# EAGLE library part SD_CARD_1140084168 (library 3D_MIG_Controller)
Conn; IC Socket; Micro SD; Right Angle; PCB Mount; MicroSD Ser.:: 10 _8 + 2_ Position Card Connector Secure Digital - microSD™ Surface Mount, Right Angle Gold
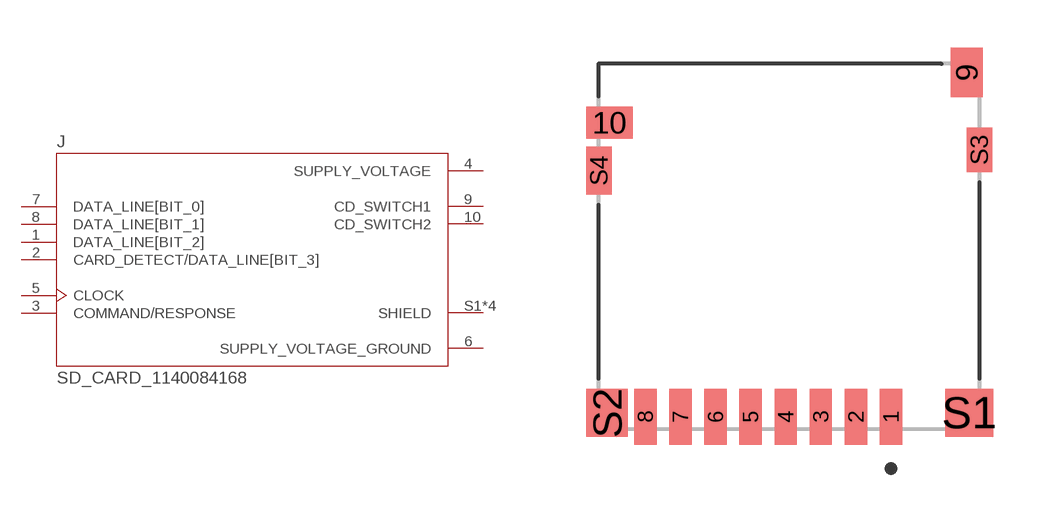
[diagram p36: symbol with the pads of SD_CARD; footprint SD_CARD]

Designator prefix J

## SD_CARD_1140084168 (MF: Amphenol ICC; PARTNO: 114-00841-68; VALUE: SD_CARD; VID: Digikey; VP: 114-00841-68-1-ND; VURL: https://www.digikey.ae/product-detail/en/amphenol-icc-commercial-products/114-00841-68/114-00841-68-1-ND/2187101?utm_source=snapeda&utm_medium=aggregator&utm_campaign=symbol)  [SD_CARD]
1  DATA_LINE[BIT_2]
2  CARD_DETECT/DATA_LINE[BIT_3]
3  COMMAND/RESPONSE
4  SUPPLY_VOLTAGE  pwr
5  CLOCK
6  SUPPLY_VOLTAGE_GROUND  pwr
7  DATA_LINE[BIT_0]
8  DATA_LINE[BIT_1]
9  CD_SWITCH1
10  CD_SWITCH2
S1  SHIELD  pas
S2  SHIELD  pas
S3  SHIELD  pas
S4  SHIELD  pas

## Footprint SD_CARD (pad centres in mm)
smd 0.7 x 1.75: 1 3.2,-5.285; 2 2.1,-5.285; 3 1,-5.285; 4 -0.1,-5.285; 5 -1.2,-5.285; 6 -2.3,-5.285; 7 -3.4,-5.285; 8 -4.5,-5.285
smd 1 x 1.55: 9 5.575,5.515
smd 1.45 x 1: 10 -5.625,3.94
smd 1.5 x 1.5: S1 5.65,-5.16
smd 1.3 x 1.5: S2 -5.7,-5.16
smd 0.8 x 1.4: S3 5.975,3.09
smd 0.8 x 1.5: S4 -5.95,2.44